# EAGLE library part 52207-1685 (library Molex_By_element14_Batch_1)
SOCKET FPC, SMT, 1MM, 16WAY
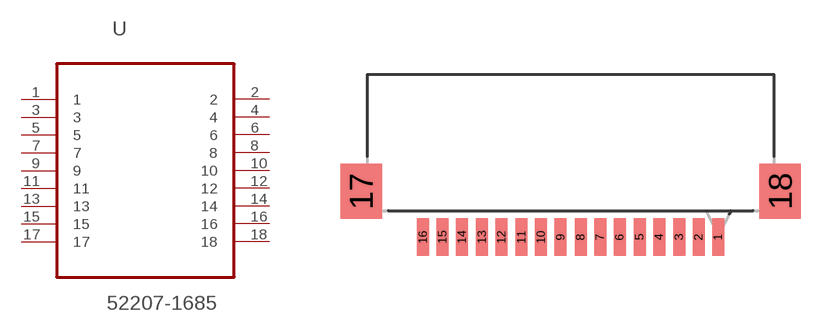
[diagram p4: symbol with the pads of MOLEX_52207-1685; footprint MOLEX_52207-1685]

Designator prefix U

## 52207-1685 (MPN: 52207-1685; OC_FARNELL: 1079941; OC_NEWARK: 66K6176; PACKAGE: SOCKET FPC, SMT, 1MM, 16WAY; SUPPLIER: Molex)  [MOLEX_52207-1685]
1  1  pas
2  2  pas
3  3  pas
4  4  pas
5  5  pas
6  6  pas
7  7  pas
8  8  pas
9  9  pas
10  10  pas
11  11  pas
12  12  pas
13  13  pas
14  14  pas
15  15  pas
16  16  pas
17  17  pas
18  18  pas

## Footprint MOLEX_52207-1685 (pad centres in mm)
smd 0.61 x 1.905: 1 7.493,4.801; 2 6.502,4.801; 3 5.512,4.801; 4 4.496,4.801; 5 3.505,4.801; 6 2.489,4.801; 7 1.499,4.801; 8 0.508,4.801; 9 -0.508,4.801; 10 -1.499,4.801; 11 -2.489,4.801; 12 -3.505,4.801; 13 -4.496,4.801; 14 -5.512,4.801; 15 -6.502,4.801; 16 -7.493,4.801
smd 2.108 x 2.794: 17 -10.643,7.137; 18 10.643,7.137